# Altium integrated library Mosfets.IntLib: 3 symbols
Pins are listed as number, name and electrical type; pins without a type are passive.

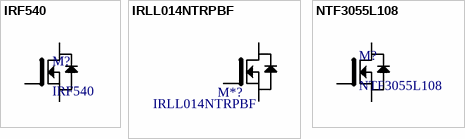
[diagram p0: symbols IRF540 to NTF3055L108]

## IRF540
designator M?
15 A, 100 V, Logic Level, N−Channel; RdsON: 120m; Gate Charge: 15 nC
footprint TO220AB_VIS
pins: 1 G, 2 D, 3 S

## IRLL014NTRPBF
designator M*?
Mosfetes N-CH 55V 2A SOT223
footprint SOT230P700X180-4M (SOT223, 4-Leads, Body 6,50x7,00mm (avg), Pitch 2,30mm, IPC Low Density)
pins: 1 G, 2 D, 3 S

## NTF3055L108
designator M?
3.0 A, 60 V, Logic Level, N−Channel; RdsON: 120m; Gate Charge: 15 nC
footprint SOT_108T1G_ONS
pins: 1 G, 2 D, 3 S